# Altium footprint library PowerBoard.PcbLib: 12 footprints
Each footprint in its own frame and in the unit in brackets; x right, y up, seen from the top. Pads: shape width x height; smd on the part's side, far side on the other; paste and mask are expansions set on the pad; w line width, h text height; cw(c..) or ccw(c..) is an arc to the next point about the centre after c.
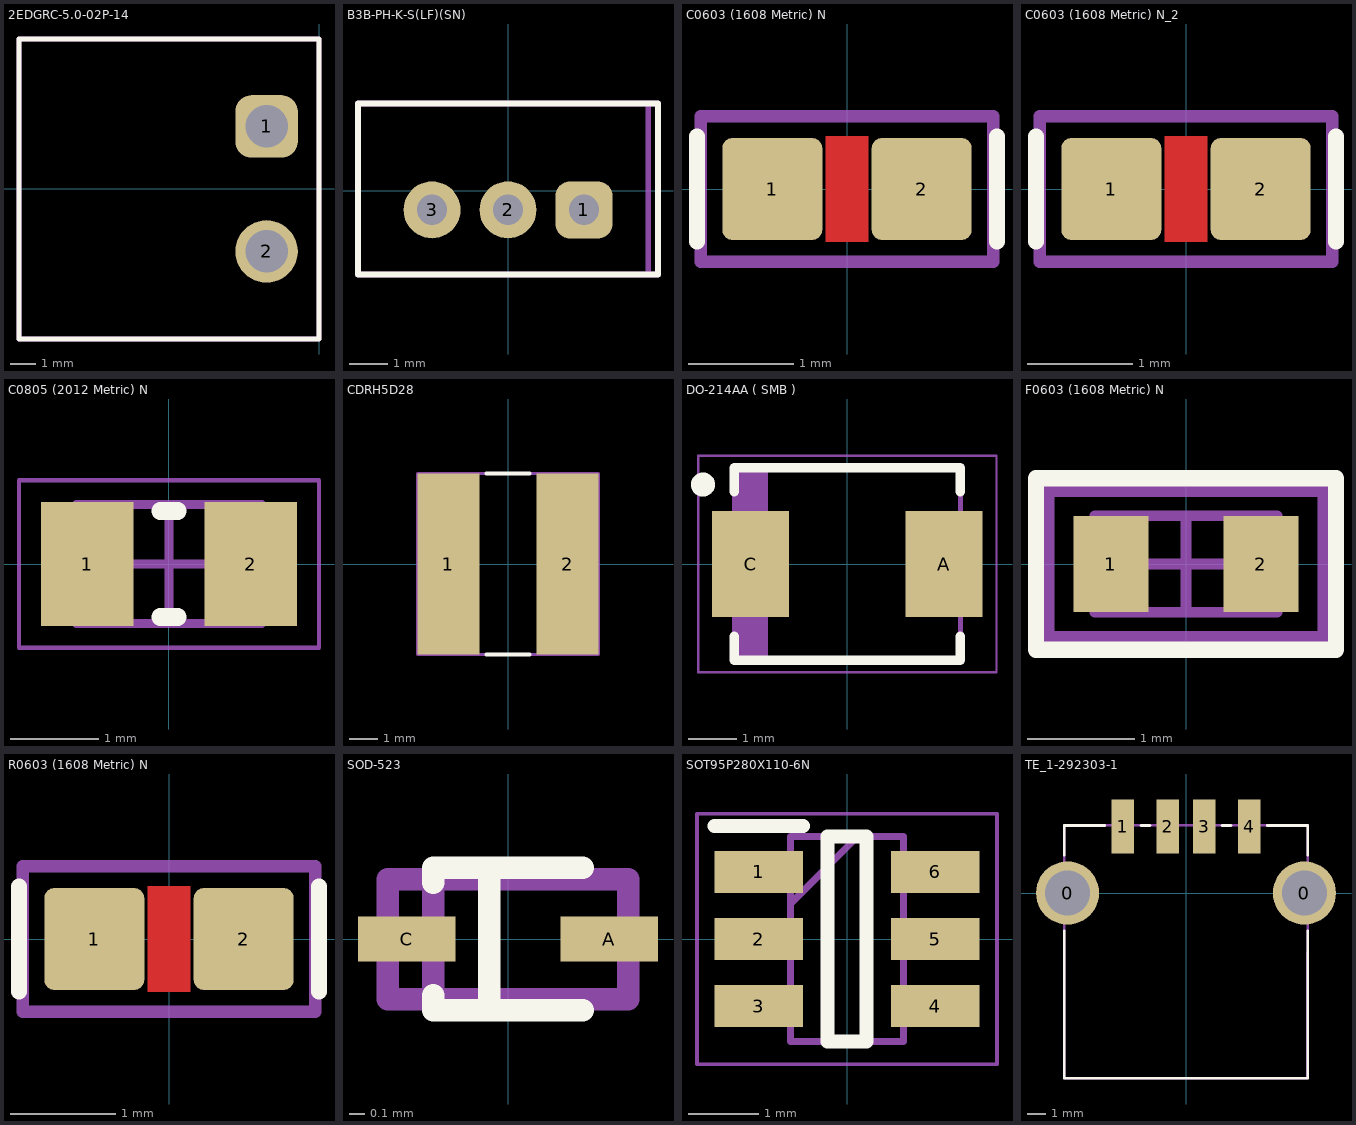
[diagram p0: the footprints below, top view; thin cyan lines are the x and y axes]

## 2EDGRC-5.0-02P-14 [mm]
pads (2):
  rrect50% 2.5x2.5 hole 1.7: 1(-2.1,2.5)
  round 2.5 hole 1.7: 2(-2.1,-2.5)
Top Overlay:
  lines w0.2: -12,-6 0,-6 0,6 -12,6 ; -12,-6 -12,-6 ; -12,-6 -12,6 ; -12,6 -12,6
Top Assembly:
  lines w0.2: 0,-6 0,6 -12,6 -12,-6 0,-6 ; 0,-6 0,-6
3D body "2EDGRC-5.0-02P-14-100A(H).stp": height 10, standoff -1.7, extent -12,-6 0,6

## B3B-PH-K-S(LF)(SN) [mm]
pads (3):
  rrect50% 1.5x1.5 hole 0.8: 1(2,-0.5)
  round 1.5 hole 0.8: 2(0,-0.5) 3(-2,-0.5)
Top Overlay:
  lines w0.15: -3.95,-2.2 -3.95,2.3 3.95,2.3 3.95,-2.2 -3.95,-2.2
Top Assembly:
  lines w0.15: 3.696,-2.2 3.696,2.3 ; -3.95,-2.2 -3.95,2.3 3.95,2.3 3.95,-2.2 -3.95,-2.2
3D body "B3B-PH-K-S(LF)(SN).step": height 6.05, standoff -3.35, extent -3.95,-2.25 3.95,2.25

## C0603 (1608 Metric) N [mm]
pads (2):
  rrect20% 0.95x0.97 smd: 1(-0.71,0) 2(0.71,0)
Top Layer:
  pour cut-out: -0.2,0.5 0.2,0.5 0.2,-0.5 -0.2,-0.5
Top Overlay:
  lines w0.15: -1.425,-0.5 -1.425,0.5 ; 1.425,-0.5 1.425,0.5
Mechanical 6:
  lines w0.12: -1.39,-0.69 -1.39,0.69 1.39,0.69 1.39,-0.69 -1.39,-0.69
Mechanical 15:
  lines w0.05: -1.39,-0.69 -1.39,0.69 1.39,0.69 1.39,-0.69 -1.39,-0.69
3D body "CAPC160X80X95L40.STEP": height 0.95, standoff 0, extent -0.8,-0.4 0.8,0.4

## C0603 (1608 Metric) N_2 [mm]
pads (2):
  rrect20% 0.95x0.97 smd: 1(-0.71,0) 2(0.71,0)
Top Layer:
  pour cut-out: -0.2,0.5 0.2,0.5 0.2,-0.5 -0.2,-0.5
Top Overlay:
  lines w0.15: -1.425,-0.5 -1.425,0.5 ; 1.425,-0.5 1.425,0.5
Mechanical 6:
  lines w0.12: -1.39,-0.69 -1.39,0.69 1.39,0.69 1.39,-0.69 -1.39,-0.69
Mechanical 15:
  lines w0.05: -1.39,-0.69 -1.39,0.69 1.39,0.69 1.39,-0.69 -1.39,-0.69
3D body "CAPC160X80X95L40.STEP": height 0.95, standoff 0, extent -0.8,-0.4 0.8,0.4

## C0805 (2012 Metric) N [mm]
pads (2):
  rect 1.05x1.4 smd: 1(-0.925,0) 2(0.925,0)
Top Overlay:
  lines w0.2: -0.1,-0.6 0.1,-0.6 ; -0.1,0.6 0.1,0.6
Mechanical 6:
  lines w0.1: -1.05,-0.675 1.05,-0.675 1.05,0.675 -1.05,0.675 -1.05,-0.675
Mechanical 15:
  lines w0.05: -1.7,-0.95 -1.7,0.95 1.7,0.95 1.7,-0.95 -1.7,-0.95
  lines w0.1: -0.5,0 0.5,0 ; 0,-0.5 0,0.5
3D body: height 0.6, standoff 0, extent -0.7,-0.675 0.7,0.675
3D body: height 0.6, standoff 0, extent -1.05,-0.675 -0.7,0.675
3D body: height 0.6, standoff 0, extent 0.7,-0.675 1.05,0.675

## CDRH5D28 [mm]
pads (2):
  rect 2.15x6.3 smd: 1(-2.075,0) 2(2.075,0)
Top Overlay:
  lines w0.15: -0.75,-3.15 0.75,-3.15 ; -0.75,3.15 0.75,3.15
Mechanical 6:
  lines w0.1: -3.15,-3.15 -3.15,3.15 3.15,3.15 3.15,-3.15 -3.15,-3.15
Top 3D Body:
  lines w0.1: -3.15,-3.15 3.15,-3.15 3.15,3.15 -3.15,3.15 -3.15,-3.15
3D body "CDRH5D28.step": height 3, standoff 0, extent -3,-3 3,3

## DO-214AA ( SMB ) [mm]
pads (2):
  rect 1.6x2.2 smd: A(2.01,0) C(-2.01,0)
Top Overlay:
  circle w0.25: c-3,1.65 r0.125
  lines w0.2: -2.35,-1.5 -2.35,-2 2.35,-2 2.35,-1.5 ; -2.35,1.5 -2.35,2 2.35,2 2.35,1.5
Top Assembly:
  rectangle: -2.35,-1.97 -1.651,1.97
  lines w0.1: -2.35,-1.97 2.35,-1.97 2.35,1.97 -2.35,1.97 -2.35,-1.97
Mechanical 4:
  text "'.Designator'" at -0.381,-0.635 h2
Mechanical 15:
  lines w0.05: -3.1,-2.25 3.1,-2.25 3.1,2.25 -3.1,2.25 -3.1,-2.25
3D body "DO-214AA ( SMB ).step": height 2.38, standoff 0, extent -2.57,-1.97 2.57,1.97

## F0603 (1608 Metric) N [mm]
pads (2):
  rect 0.7x0.9 smd: 1(-0.7,0) 2(0.7,0)
Top Overlay:
  lines w0.15: -1.4,-0.8 -1.4,0.8 1.4,0.8 1.4,-0.8 -1.4,-0.8
Mechanical 6:
  lines w0.15: -1.3,-0.7 -1.3,0.7 1.3,0.7 1.3,-0.7 -1.3,-0.7
Top 3D Body:
  lines w0.1: -0.85,-0.45 0.85,-0.45 0.85,0.45 -0.85,0.45 -0.85,-0.45
Mechanical 15:
  lines w0.05: -1.3,-0.7 1.3,-0.7 1.3,0.7 -1.3,0.7 -1.3,-0.7
  lines w0.1: -0.45,0 0.45,0 ; 0,-0.45 0,0.45
3D body: height 0.4, standoff 0, extent 0.6,-0.45 0.85,0.45
3D body: height 0.4, standoff 0, extent -0.85,-0.45 -0.6,0.45
3D body: height 0.4, standoff 0, extent -0.6,-0.45 0.6,0.45

## R0603 (1608 Metric) N [mm]
pads (2):
  rrect20% 0.95x0.97 smd: 1(-0.71,0) 2(0.71,0)
Top Layer:
  pour cut-out: -0.2,0.5 0.2,0.5 0.2,-0.5 -0.2,-0.5
Top Overlay:
  lines w0.15: -1.425,-0.5 -1.425,0.5 ; 1.425,-0.5 1.425,0.5
Mechanical 6:
  lines w0.12: -1.39,-0.69 -1.39,0.69 1.39,0.69 1.39,-0.69 -1.39,-0.69
Mechanical 15:
  lines w0.05: -1.39,-0.69 1.39,-0.69 1.39,0.69 -1.39,0.69 -1.39,-0.69
3D body "RESC160X80X95L40.STEP": height 0.95, standoff 0, extent -0.8,-0.4 0.8,0.4

## SOD-523 [mm]
pads (2):
  rect 0.65x0.3 smd: A(0.675,0) C(-0.675,0)
Top Overlay:
  lines w0.15: -0.5,-0.375 -0.5,-0.475 0.5,-0.475 ; -0.5,0.375 -0.5,0.475 0.5,0.475 ; -0.125,-0.475 -0.125,0.475
Top Assembly:
  lines w0.15: -0.5,-0.4 -0.5,0.4 ; -0.8,-0.4 0.8,-0.4 0.8,0.4 -0.8,0.4 -0.8,-0.4
3D body "SOD523.step": height 0.7, standoff 0, extent -0.8,-0.399 0.8,0.399

## SOT95P280X110-6N [mm]
pads (6):
  rect 1.25x0.6 smd: 1(-1.25,0.95) 2(-1.25,0) 3(-1.25,-0.95) 4(1.25,-0.95) 5(1.25,0) 6(1.25,0.95)
Top Overlay:
  lines w0.2: -1.875,1.6 -0.625,1.6 ; -0.275,-1.45 0.275,-1.45 0.275,1.45 -0.275,1.45 -0.275,-1.45
Top 3D Body:
  lines w0.1: -0.8,0.5 0.15,1.45 ; -0.8,-1.45 0.8,-1.45 0.8,1.45 -0.8,1.45 -0.8,-1.45
Mechanical 15:
  lines w0.05: -2.125,-1.775 2.125,-1.775 2.125,1.775 -2.125,1.775 -2.125,-1.775
3D body "TPS54202DDCR.stp": height 1.1, standoff 0, extent -1.4,-1.45 1.4,1.45

## TE_1-292303-1 [mm]
pads (6):
  round 3.5 hole 2.5: 0(-6.57,0) 0(6.57,0)
  rect 1.25x3 smd: 1(-3.5,3.68) 2(-1,3.68) 3(1,3.68) 4(3.5,3.68)
Top Overlay:
  lines w0.15: -6.75,-10.28 6.75,-10.28 ; -6.75,-10.25 -6.75,-2.1 ; -6.75,2.1 -6.75,3.72 ; -6.75,3.75 -4.75,3.75 -4.5,3.75 ; -2.5,3.75 -2,3.75 ; 2,3.75 2.5,3.75 ; 4.5,3.75 6.75,3.75 ; 6.75,-10.25 6.75,-2.1 ; 6.75,2.1 6.75,3.72
Top Assembly:
  lines w0.15: -6.75,-10.28 -6.75,3.749 6.752,3.757 6.736,-10.28 -6.75,-10.28
3D body "c-1-292303-1-e-3d.stp": height 7.77, standoff -3.59, extent -8.115,-10.28 8.117,4.88